# Altium integrated library L298N.IntLib: 1 symbol
Pins are listed as number, name and electrical type; pins without a type are passive.

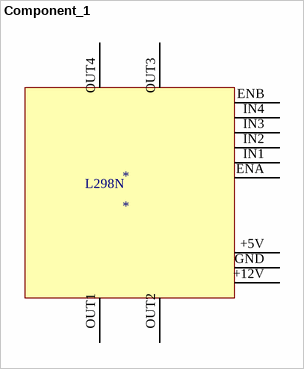
[diagram p0: symbol Component_1]

## Component_1
designator *
footprint PCBComponent_1
pins: +5V, +12V, ENA, ENB, GND, IN1, IN2, IN3, IN4, OUT1, OUT2, OUT3, OUT4
text: L298N